# Altium footprint library BasicSAMD21.PcbLib: 7 footprints
Each footprint in its own frame and in the unit in brackets; x right, y up, seen from the top. Pads: shape width x height; smd on the part's side, far side on the other; paste and mask are expansions set on the pad; w line width, h text height; cw(c..) or ccw(c..) is an arc to the next point about the centre after c.
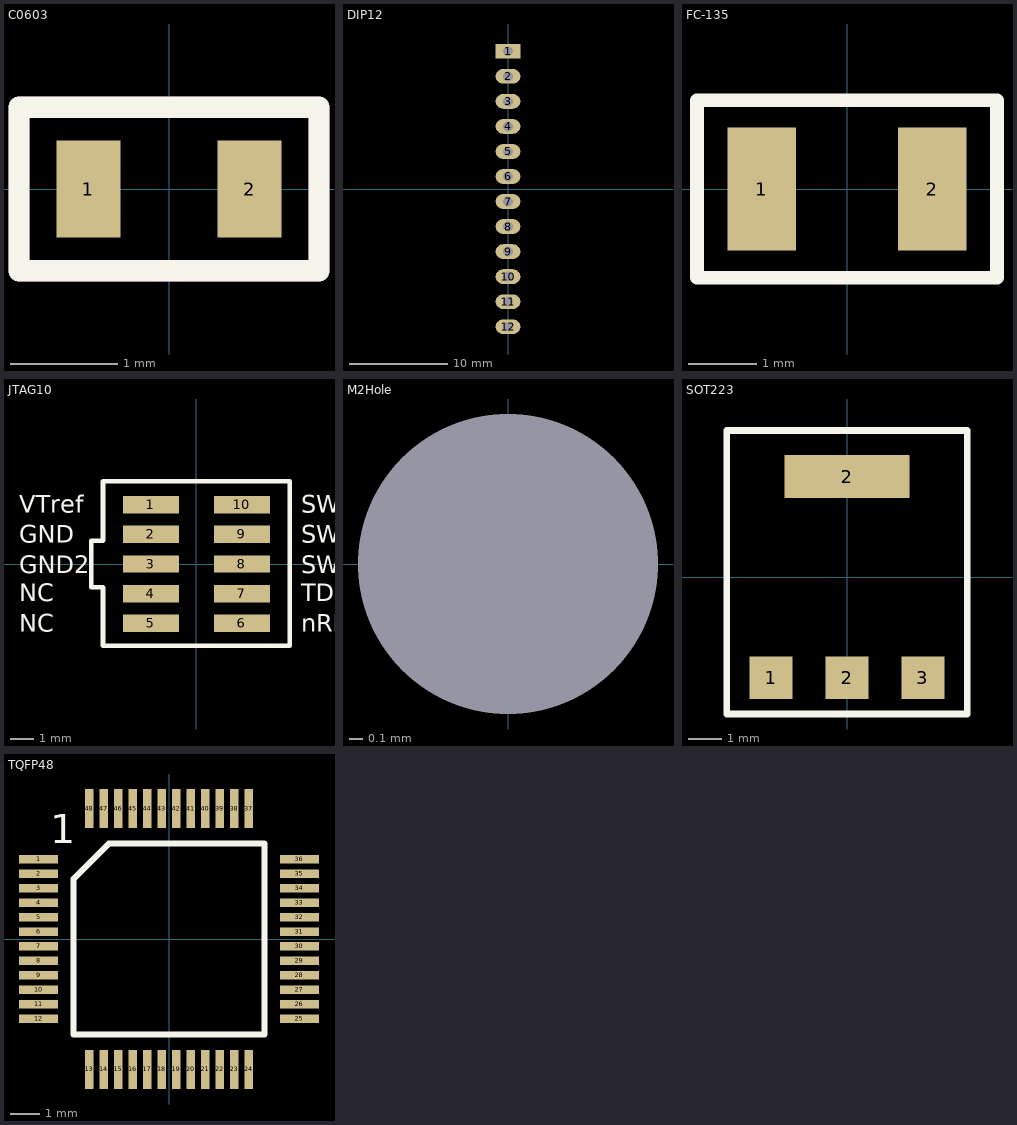
[diagram p0: the footprints below, top view; thin cyan lines are the x and y axes]

## C0603 [mm]
pads (2):
  rect 0.6x0.9 smd: 1(-0.75,0) 2(0.75,0)
Top Overlay:
  lines w0.2: -1.397,-0.762 1.397,-0.762 1.397,0.762 -1.397,0.762 -1.397,-0.762
Mechanical 29:
  lines w0.2: -1.397,-0.762 1.397,-0.762 1.397,0.762 -1.397,0.762 -1.397,-0.762
  text ".Designator" at -1.2,-0.4 h0.6
3D body "R0603.step": height 0.81, standoff 0.01, extent -0.8,-0.425 0.8,0.415

## DIP12 [mm]
pads (12):
  rect 2.5x1.5 hole 1: 1(0,13.97)
  oval 2.5x1.5 hole 1: 2(0,11.43) 3(0,8.89) 4(0,6.35) 5(0,3.81) 6(0,1.27) 7(0,-1.27) 8(0,-3.81) 9(0,-6.35) 10(0,-8.89) 11(0,-11.43) 12(0,-13.97)
3D body "_ _ _C121LFBN-RC.STEP": height 8.51, standoff -3.19, extent -1.3,-15.49 1.24,15.49

## FC-135 [mm]
pads (2):
  rect 1x1.8 smd: 1(-1.25,0) 2(1.25,0)
Top Overlay:
  lines w0.2: -2.2,-1.3 2.2,-1.3 2.2,1.3 -2.2,1.3 -2.2,-1.3
Mechanical 29:
  text ".Designator" at -1.6,-0.5 h1.25
3D body "User Library-Crystal FC-135.STEP": height 0.8, standoff 0, extent -1.6,-0.75 1.6,0.75

## JTAG10 [mm]
pads (10):
  rect 2.4x0.74 smd: 1(-1.95,2.54) 2(-1.95,1.27) 3(-1.95,0) 4(-1.95,-1.27) 5(-1.95,-2.54) 6(1.95,-2.54) 7(1.95,-1.27) 8(1.95,0) 9(1.95,1.27) 10(1.95,2.54)
Top Overlay:
  lines w0.2: -4.5,-1 -4.5,1 -4,1 -4,3.54 4,3.54 4,-3.5 -4,-3.5 -4,-1 -4.5,-1
  text "SWDIO" at 4.5,2.2 h0.75
  text "SWCLK" at 4.5,0.9 h0.75
  text "SWO" at 4.5,-0.4 h0.75
  text "TDI" at 4.5,-1.6 h0.75
  text "nRESET" at 4.5,-2.9 h0.75
  text "NC" at -7.6,-2.9 h0.75
  text "NC" at -7.6,-1.6 h0.75
  text "GND2" at -7.6,-0.4 h0.75
  text "GND" at -7.6,0.9 h0.75
  text "VTref" at -7.6,2.2 h0.75
3D body "M50-3610542.STEP": height 4.69, standoff -0.81, extent -2.75,-3.2 2.75,3.15

## M2Hole [mil]
pads (1):
  round 60 hole 86.61 unplated: ""(0,0)
3D body "91290A015_BLACK-OXIDE CLASS 12.9 SOCKET HEAD CAP SCREW.STEP": height 79.24, standoff -314.46, extent -74.8,-74.8 74.81,74.8

## SOT223 [mm]
pads (4):
  rect 1.3x1.3 smd: 1(-2.3,-3.05) 2(0,-3.05) 3(2.3,-3.05)
  rect 3.8x1.3 smd: 2(0,3.05)
Top Overlay:
  lines w0.2: -3.65,-4.15 -3.65,-3.05 -3.65,4.45 3.65,4.45 3.65,-4.15 -3.65,-4.15
Mechanical 29:
  text ".Designator" at -2.7,-0.4 h1.52
3D body "User Library-AMS1117.step": height 1.87, standoff 0.01, extent -3.25,-3.599 3.25,3.4

## TQFP48 [mm]
pads (48):
  rect 1.35x0.29 smd: 1(-4.5,2.75) 2(-4.5,2.25) 3(-4.5,1.75) 4(-4.5,1.25) 5(-4.5,0.75) 6(-4.5,0.25) 7(-4.5,-0.25) 8(-4.5,-0.75) 9(-4.5,-1.25) 10(-4.5,-1.75) 11(-4.5,-2.25) 12(-4.5,-2.75) 25(4.5,-2.75) 26(4.5,-2.25) 27(4.5,-1.75) 28(4.5,-1.25) 29(4.5,-0.75) 30(4.5,-0.25) 31(4.5,0.25) 32(4.5,0.75) 33(4.5,1.25) 34(4.5,1.75) 35(4.5,2.25) 36(4.5,2.75)
  rect 0.29x1.35 smd: 13(-2.75,-4.5) 14(-2.25,-4.5) 15(-1.75,-4.5) 16(-1.25,-4.5) 17(-0.75,-4.5) 18(-0.25,-4.5) 19(0.25,-4.5) 20(0.75,-4.5) 21(1.25,-4.5) 22(1.75,-4.5) 23(2.25,-4.5) 24(2.75,-4.5) 37(2.75,4.5) 38(2.25,4.5) 39(1.75,4.5) 40(1.25,4.5) 41(0.75,4.5) 42(0.25,4.5) 43(-0.25,4.5) 44(-0.75,4.5) 45(-1.25,4.5) 46(-1.75,4.5) 47(-2.25,4.5) 48(-2.75,4.5)
Top Overlay:
  lines w0.2: -3.29,-3.29 -3.29,2.08 -2.08,3.29 3.29,3.29 3.29,-3.29 -3.29,-3.29
  text "1" at -4.1,3.3 h1
Mechanical 29:
  text ".Designator" at -1.8,-0.7 h1.52
3D body "User Library-TQFP48.step": height 1.1, standoff 0, extent -4.509,-4.509 4.509,4.509